# Altium footprint library ATM90E36A_AU_R.PcbLib: 1 footprints
Each footprint in its own frame and in the unit in brackets; x right, y up, seen from the top. Pads: shape width x height; smd on the part's side, far side on the other; paste and mask are expansions set on the pad; w line width, h text height; cw(c..) or ccw(c..) is an arc to the next point about the centre after c.
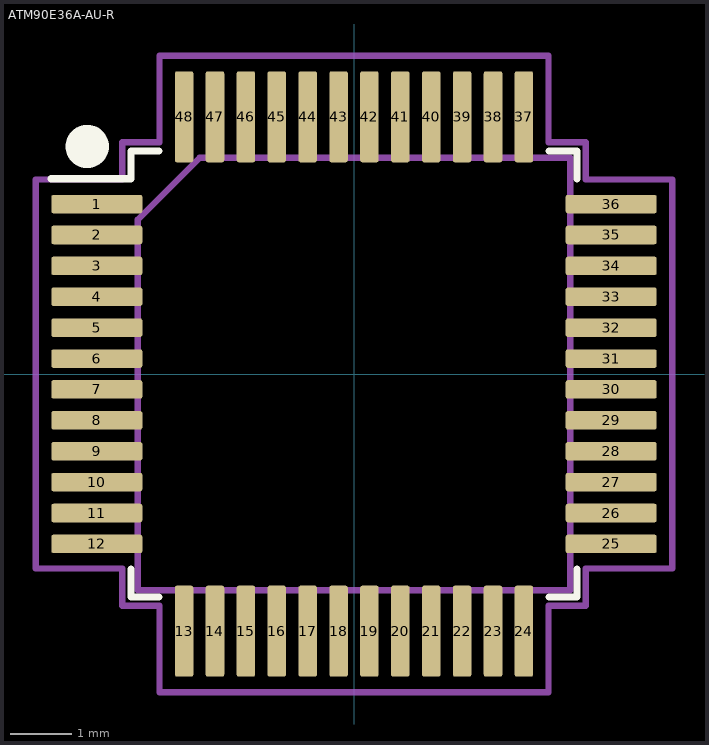
[diagram p0: the footprint, top view; thin cyan lines are the x and y axes]

## ATM90E36A-AU-R [mm]
pads (48):
  rrect25% 1.475x0.3 smd mask+0.102: 1(-4.163,2.75) 2(-4.163,2.25) 3(-4.163,1.75) 4(-4.163,1.25) 5(-4.163,0.75) 6(-4.162,0.25) 7(-4.162,-0.25) 8(-4.163,-0.75) 9(-4.163,-1.25) 10(-4.163,-1.75) 11(-4.163,-2.25) 12(-4.163,-2.75) 25(4.163,-2.75) 26(4.163,-2.25) 27(4.163,-1.75) 28(4.163,-1.25) 29(4.163,-0.75) 30(4.162,-0.25) 31(4.162,0.25) 32(4.163,0.75) 33(4.163,1.25) 34(4.163,1.75) 35(4.163,2.25) 36(4.163,2.75)
  rrect25% 0.3x1.475 smd mask+0.102: 13(-2.75,-4.163) 14(-2.25,-4.163) 15(-1.75,-4.163) 16(-1.25,-4.163) 17(-0.75,-4.163) 18(-0.25,-4.162) 19(0.25,-4.162) 20(0.75,-4.163) 21(1.25,-4.163) 22(1.75,-4.163) 23(2.25,-4.163) 24(2.75,-4.163) 37(2.75,4.163) 38(2.25,4.163) 39(1.75,4.163) 40(1.25,4.163) 41(0.75,4.163) 42(0.25,4.162) 43(-0.25,4.162) 44(-0.75,4.163) 45(-1.25,4.163) 46(-1.75,4.163) 47(-2.25,4.163) 48(-2.75,4.163)
Top Overlay:
  circle w0.5: c-4.318,3.683 r0.1
  lines w0.12: -4.9,3.16 -3.61,3.16 -3.61,3.61 -3.16,3.61 ; -3.61,-3.16 -3.61,-3.61 -3.16,-3.61 ; 3.16,-3.61 3.61,-3.61 3.61,-3.16 ; 3.16,3.61 3.61,3.61 3.61,3.16
Mechanical 1:
  lines w0.1: -5.15,-3.15 -5.15,0 -5.15,3.15 -3.75,3.15 -3.75,3.75 -3.15,3.75 -3.15,5.15 0,5.15 3.15,5.15 3.15,3.75 3.75,3.75 3.75,3.15 5.15,3.15 5.15,0 5.15,-3.15 3.75,-3.15 3.75,-3.75 3.15,-3.75 3.15,-5.15 0,-5.15 -3.15,-5.15 -3.15,-3.75 -3.75,-3.75 -3.75,-3.15 -5.15,-3.15 ; -3.5,-3.5 3.5,-3.5 3.5,3.5 -2.5,3.5 -3.5,2.5 -3.5,-3.5
  text ".Designator" at 0,0.188 h1
Mechanical 15:
  text "+" at -0.666,-1 h2
3D body "TQFP48.step": height 1.02, standoff 0, extent -4.5,-4.5 4.509,4.5